# EAGLE library part SI570 (library _RoweTel)
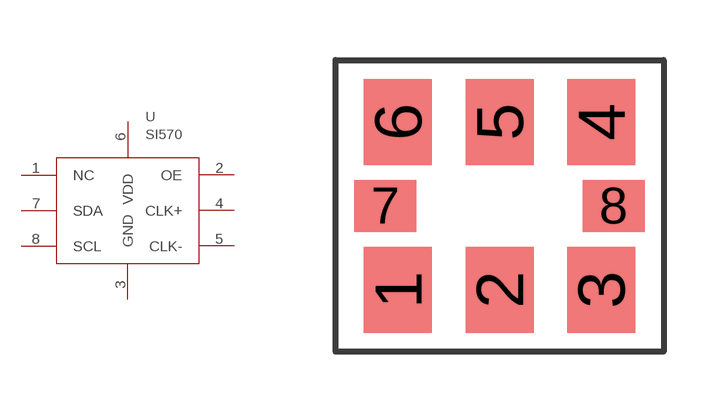
[diagram p83: symbol with the pads of SI570; footprint SI570]

Designator prefix U

## SI570  [SI570]
1  NC  nc
2  OE  in
3  GND  pwr
4  CLK+  out
5  CLK-  out
6  VDD  pwr
7  SDA
8  SCL

## Footprint SI570 (pad centres in mm)
smd 1.7 x 2.15: 1 -2.54,-2.1; 2 0,-2.1; 3 2.54,-2.1; 4 2.54,2.1; 5 0,2.1; 6 -2.54,2.1
smd 1.545 x 1.3: 7 -2.853,0; 8 2.853,0